# EAGLE library part ISO122U (library burr-brown)
Precision Lowest Cost Isolation Amplifier
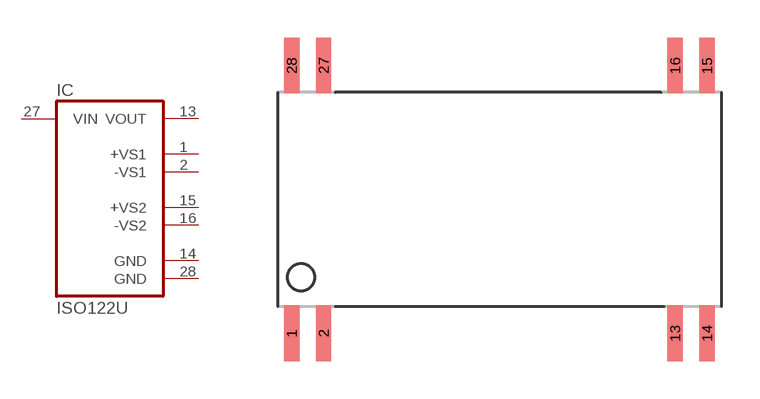
[diagram p14: symbol with the pads of SO28-3/8; footprint SO28-3/8]

Designator prefix IC

## ISO122U  [SO28-3/8]
1  +VS1  pwr
2  -VS1  pwr
13  VOUT  out
14  GND  pwr
15  +VS2  pwr
16  -VS2  pwr
27  VIN  in
28  GND  pwr

## Footprint SO28-3/8 (pad centres in mm)
smd 0.61 x 2.21: 1 -8.255,-5.315; 2 -6.985,-5.315; 13 6.985,-5.315; 14 8.255,-5.315; 15 8.255,5.315; 16 6.985,5.315; 27 -6.985,5.315; 28 -8.255,5.315